# Altium schematic symbol library PIHER POTI.SchLib: 1 symbol
Pins are listed as number, name and electrical type; pins without a type are passive.

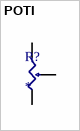
[diagram p0: symbol POTI]

## POTI
designator R?
PIHER trimer vertikalni
footprint Poti
pins: 1, 2, 3